# EAGLE library part 3.5INCHRPIDISPLAY (library CEDT_JANUARY_2015_v6)
3.5inch Waveshare LCD Display for RaspberryPi
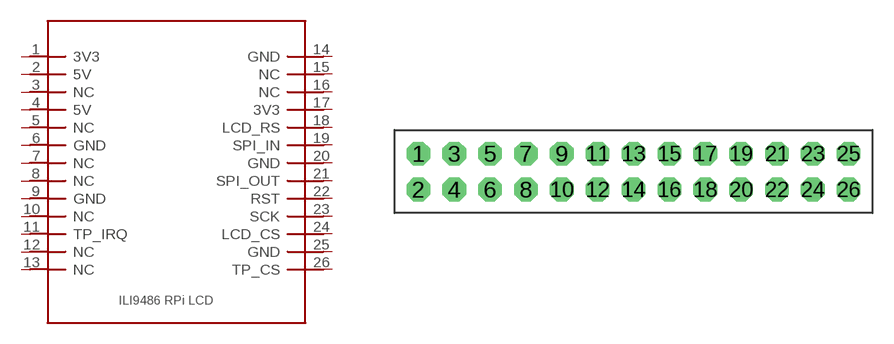
[diagram p90: symbol with the pads of 3.5INCH_RPI_LCD; footprint 3.5INCH_RPI_LCD]

Designator prefix -

## 3.5INCHRPIDISPLAY  [3.5INCH_RPI_LCD]
1  3V3
2  5V
3  NC
4  5V
5  NC
6  GND
7  NC
8  NC
9  GND
10  NC
11  TP_IRQ
12  NC
13  NC
14  GND
15  NC
16  NC
17  3V3
18  LCD_RS
19  SPI_IN
20  GND
21  SPI_OUT
22  RST
23  SCK
24  LCD_CS
25  GND
26  TP_CS

## Footprint 3.5INCH_RPI_LCD (pad centres in mm)
3.5inch Waveshare RPi LCD Display
drill 0.9 pad 1.676 octagon: 1 7.62,5.08; 2 7.62,2.54; 3 10.16,5.08; 4 10.16,2.54; 5 12.7,5.08; 6 12.7,2.54; 7 15.24,5.08; 8 15.24,2.54; 9 17.78,5.08; 10 17.78,2.54; 11 20.32,5.08; 12 20.32,2.54; 13 22.86,5.08; 14 22.86,2.54; 15 25.4,5.08; 16 25.4,2.54; 17 27.94,5.08; 18 27.94,2.54; 19 30.48,5.08; 20 30.48,2.54; 21 33.02,5.08; 22 33.02,2.54; 23 35.56,5.08; 24 35.56,2.54; 25 38.1,5.08; 26 38.1,2.54